# EAGLE library part TPS61201 (library Pygmy)
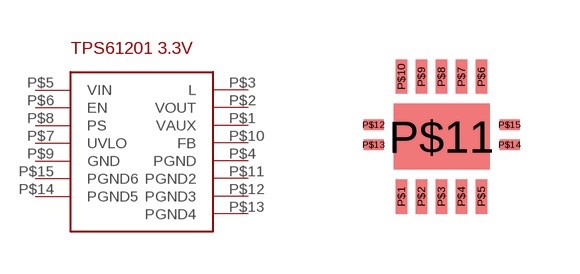
[diagram p16: symbol with the pads of S-PVSON-N10; footprint S-PVSON-N10]

Designator prefix -

## TPS61201  [S-PVSON-N10]
P$1  VAUX
P$2  VOUT
P$3  L
P$4  PGND
P$5  VIN
P$6  EN
P$7  UVLO
P$8  PS
P$9  GND
P$10  FB
P$11  PGND2
P$12  PGND3
P$13  PGND4
P$14  PGND5
P$15  PGND6

## Footprint S-PVSON-N10 (pad centres in mm)
smd 0.28 x 0.85: P$1 0,0.4; P$2 0.5,0.4; P$3 1,0.4; P$4 1.5,0.4; P$5 2,0.4; P$6 2,3.4; P$7 1.5,3.4; P$8 1,3.4; P$9 0.5,3.4; P$10 0,3.4
smd 2.4 x 1.65: P$11 1,1.9
smd 0.5 x 0.26: P$12 -0.7,2.2; P$13 -0.7,1.7; P$14 2.7,1.7; P$15 2.7,2.2